# EAGLE library part 838_DIN8 (library 838_Components)
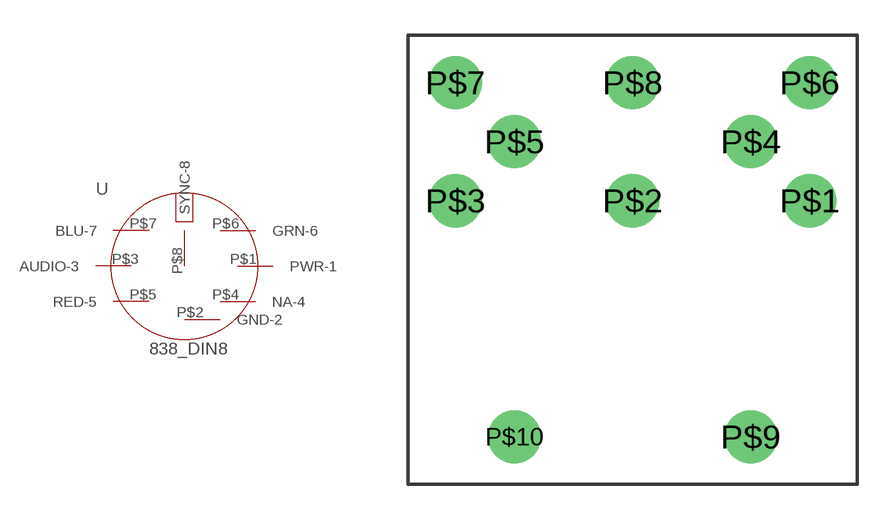
[diagram p18: symbol with the pads of 838_DIN8; footprint 838_DIN8]

Designator prefix -

## 838_DIN8838-DIN8-F_RA  [838_DIN8]
P$1  PWR-1  pwr
P$2  GND-2
P$3  AUDIO-3
P$4  NA-4
P$5  RED-5
P$6  GRN-6
P$7  BLU-7
P$8  SYNC-8

## Footprint 838_DIN8 (pad centres in mm)
drill 1.5: P$1 7.5,-5; P$2 0,-5; P$3 -7.5,-5; P$4 5,-2.5; P$5 -5,-2.5; P$6 7.5,0; P$7 -7.5,0; P$8 0,0; P$9 5,-15; P$10 -5,-15